# Altium footprint library Con 050 DSubminiature.PcbLib: 112 footprints (part 3 of 7)
Each footprint in its own frame and in the unit in brackets; x right, y up, seen from the top. Pads: shape width x height; smd on the part's side, far side on the other; paste and mask are expansions set on the pad; w line width, h text height; cw(c..) or ccw(c..) is an arc to the next point about the centre after c.
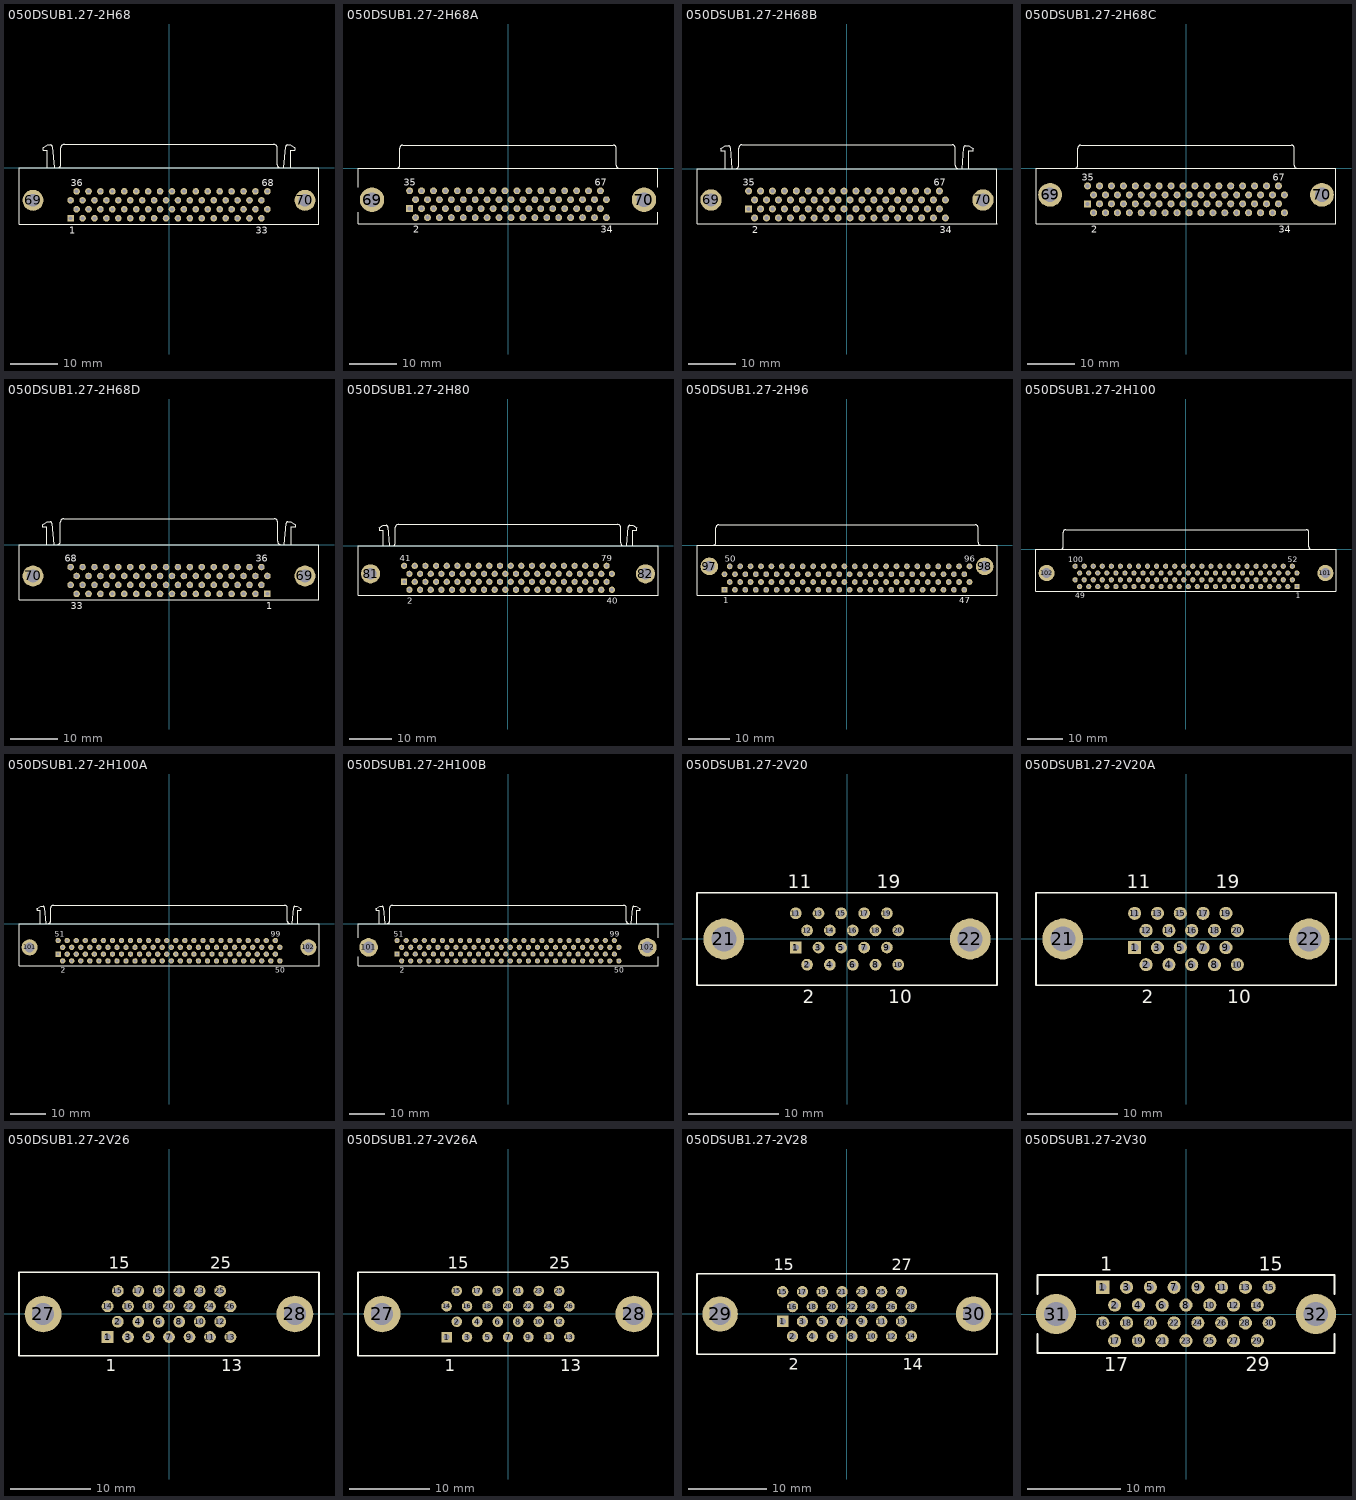
[diagram p2: the footprints below, top view; thin cyan lines are the x and y axes]

## 050DSUB1.27-2H68 [mm] "Connector; D Subminiature 050 Series; 68 Position; Right Angle"
height 10.55
pads (70):
  rect 1.4x1.4 hole 0.8: 1(-20.955,-10.715)
  round 1.4 hole 0.8: 2(-19.685,-8.81) 3(-18.415,-10.715) 4(-17.145,-8.81) 5(-15.875,-10.715) 6(-14.605,-8.81) 7(-13.335,-10.715) 8(-12.065,-8.81) 9(-10.795,-10.715) 10(-9.525,-8.81) 11(-8.255,-10.715) 12(-6.985,-8.81) 13(-5.715,-10.715) 14(-4.445,-8.81) 15(-3.175,-10.715) 16(-1.905,-8.81) 17(-0.635,-10.715) 18(0.635,-8.81) 19(1.905,-10.715) 20(3.175,-8.81) 21(4.445,-10.715) 22(5.715,-8.81) 23(6.985,-10.715) 24(8.255,-8.81) 25(9.525,-10.715) 26(10.795,-8.81) 27(12.065,-10.715) 28(13.335,-8.81) 29(14.605,-10.715) 30(15.875,-8.81) 31(17.145,-10.715) 32(18.415,-8.81) 33(19.685,-10.715) 34(20.955,-8.81) 35(-20.955,-6.905) 36(-19.685,-5) 37(-18.415,-6.905) 38(-17.145,-5) 39(-15.875,-6.905) 40(-14.605,-5) 41(-13.335,-6.905) 42(-12.065,-5) 43(-10.795,-6.905) 44(-9.525,-5) 45(-8.255,-6.905) 46(-6.985,-5) 47(-5.715,-6.905) 48(-4.445,-5) 49(-3.175,-6.905) 50(-1.905,-5) 51(-0.635,-6.905) 52(0.635,-5) 53(1.905,-6.905) 54(3.175,-5) 55(4.445,-6.905) 56(5.715,-5) 57(6.985,-6.905) 58(8.255,-5) 59(9.525,-6.905) 60(10.795,-5) 61(12.065,-6.905) 62(13.335,-5) 63(14.605,-6.905) 64(15.875,-5) 65(17.145,-6.905) 66(18.415,-5) 67(19.685,-6.905) 68(20.955,-5)
  round 4.45 hole 2.7: 69(-28.955,-6.905) 70(28.955,-6.905)
Top Overlay:
  lines w0.2: -26.815,4.27 -25.875,4.898 -25.153,4.898 cw(c-25.255,4.5) -24.845,4.5 ; -26.801,4.255 ccw(c-26.575,4.01) -26.825,3.79 -25.945,3.79 -25.945,0 ; -24.845,4.52 -24.475,0 ; -23.735,0.005 ccw(c-23.735,0.7) -23.04,0.7 -23.04,4.3 cw(c-22.345,4.3) -22.345,4.995 ; -22.345,5 22.345,5 ; 22.345,4.995 cw(c22.345,4.3) 23.04,4.3 23.04,0.7 ccw(c23.735,0.7) 23.735,0.005 ; 24.475,0 24.845,4.52 ; 24.845,4.5 cw(c25.255,4.5) 25.153,4.898 25.875,4.898 26.815,4.27 ; 25.945,0 25.945,3.79 26.825,3.79 ccw(c26.575,4.01) 26.801,4.255 ; -31.95,-12.015 31.95,-12.015 31.95,0 -31.95,0 -31.95,-12.015
  text "68" at 19.705,-3.925 h1.5
  text "36" at -20.935,-3.925 h1.5
  text "33" at 18.435,-13.99 h1.5
  text "1" at -21.205,-13.99 h1.5

## 050DSUB1.27-2H68A [mm] "Connector; D Subminiature 050 Series; 68 Position; Right Angle"
height 10.44
pads (70):
  rect 1.46x1.46 hole 0.86: 1(-20.955,-8.555)
  round 1.46 hole 0.86: 2(-19.685,-10.46) 3(-18.415,-8.555) 4(-17.145,-10.46) 5(-15.875,-8.555) 6(-14.605,-10.46) 7(-13.335,-8.555) 8(-12.065,-10.46) 9(-10.795,-8.555) 10(-9.525,-10.46) 11(-8.255,-8.555) 12(-6.985,-10.46) 13(-5.715,-8.555) 14(-4.445,-10.46) 15(-3.175,-8.555) 16(-1.905,-10.46) 17(-0.635,-8.555) 18(0.635,-10.46) 19(1.905,-8.555) 20(3.175,-10.46) 21(4.445,-8.555) 22(5.715,-10.46) 23(6.985,-8.555) 24(8.255,-10.46) 25(9.525,-8.555) 26(10.795,-10.46) 27(12.065,-8.555) 28(13.335,-10.46) 29(14.605,-8.555) 30(15.875,-10.46) 31(17.145,-8.555) 32(18.415,-10.46) 33(19.685,-8.555) 34(20.955,-10.46) 35(-20.955,-4.745) 36(-19.685,-6.65) 37(-18.415,-4.745) 38(-17.145,-6.65) 39(-15.875,-4.745) 40(-14.605,-6.65) 41(-13.335,-4.745) 42(-12.065,-6.65) 43(-10.795,-4.745) 44(-9.525,-6.65) 45(-8.255,-4.745) 46(-6.985,-6.65) 47(-5.715,-4.745) 48(-4.445,-6.65) 49(-3.175,-4.745) 50(-1.905,-6.65) 51(-0.635,-4.745) 52(0.635,-6.65) 53(1.905,-4.745) 54(3.175,-6.65) 55(4.445,-4.745) 56(5.715,-6.65) 57(6.985,-4.745) 58(8.255,-6.65) 59(9.525,-4.745) 60(10.795,-6.65) 61(12.065,-4.745) 62(13.335,-6.65) 63(14.605,-4.745) 64(15.875,-6.65) 65(17.145,-4.745) 66(18.415,-6.65) 67(19.685,-4.745) 68(20.955,-6.65)
  round 5.2 hole 3.18: 69(-28.955,-6.65) 70(28.955,-6.65)
Top Overlay:
  lines w0.2: -31.94,-9.298 -31.94,-11.76 31.94,-11.76 31.94,-9.298 ; -31.94,-4.002 -31.94,0 31.94,0 31.94,-4.002 ; -23.76,0.015 ccw(c-23.76,0.71) -23.065,0.71 -23.065,4.3 cw(c-22.37,4.3) -22.37,4.995 ; -22.37,5 22.37,5 ; 22.37,4.995 cw(c22.37,4.3) 23.065,4.3 23.065,0.71 ccw(c23.76,0.71) 23.76,0.015
  lines w0.254: -29.292,-6.65 -28.955,-6.65
  text "67" at 18.435,-3.64 h1.5
  text "35" at -22.205,-3.64 h1.5
  text "34" at 19.705,-13.735 h1.5
  text "2" at -20.185,-13.735 h1.5

## 050DSUB1.27-2H68B [mm] "Connector; D Subminiature 050 Series; 68 Position; Right Angle"
height 10.44
pads (70):
  rect 1.5x1.5 hole 0.86: 1(-20.955,-8.555)
  round 1.5 hole 0.86: 2(-19.685,-10.46) 3(-18.415,-8.555) 4(-17.145,-10.46) 5(-15.875,-8.555) 6(-14.605,-10.46) 7(-13.335,-8.555) 8(-12.065,-10.46) 9(-10.795,-8.555) 10(-9.525,-10.46) 11(-8.255,-8.555) 12(-6.985,-10.46) 13(-5.715,-8.555) 14(-4.445,-10.46) 15(-3.175,-8.555) 16(-1.905,-10.46) 17(-0.635,-8.555) 18(0.635,-10.46) 19(1.905,-8.555) 20(3.175,-10.46) 21(4.445,-8.555) 22(5.715,-10.46) 23(6.985,-8.555) 24(8.255,-10.46) 25(9.525,-8.555) 26(10.795,-10.46) 27(12.065,-8.555) 28(13.335,-10.46) 29(14.605,-8.555) 30(15.875,-10.46) 31(17.145,-8.555) 32(18.415,-10.46) 33(19.685,-8.555) 34(20.955,-10.46) 35(-20.955,-4.745) 36(-19.685,-6.65) 37(-18.415,-4.745) 38(-17.145,-6.65) 39(-15.875,-4.745) 40(-14.605,-6.65) 41(-13.335,-4.745) 42(-12.065,-6.65) 43(-10.795,-4.745) 44(-9.525,-6.65) 45(-8.255,-4.745) 46(-6.985,-6.65) 47(-5.715,-4.745) 48(-4.445,-6.65) 49(-3.175,-4.745) 50(-1.905,-6.65) 51(-0.635,-4.745) 52(0.635,-6.65) 53(1.905,-4.745) 54(3.175,-6.65) 55(4.445,-4.745) 56(5.715,-6.65) 57(6.985,-4.745) 58(8.255,-6.65) 59(9.525,-4.745) 60(10.795,-6.65) 61(12.065,-4.745) 62(13.335,-6.65) 63(14.605,-4.745) 64(15.875,-6.65) 65(17.145,-4.745) 66(18.415,-6.65) 67(19.685,-4.745) 68(20.955,-6.65)
  round 4.55 hole 2.77: 69(-28.955,-6.65) 70(28.955,-6.65)
Top Overlay:
  lines w0.2: -26.84,4.27 -25.9,4.898 -25.178,4.898 cw(c-25.28,4.5) -24.87,4.5 ; -26.826,4.255 ccw(c-26.6,4.01) -26.85,3.79 -25.97,3.79 -25.97,0 ; -24.87,4.52 -24.5,0 ; -23.76,0.005 ccw(c-23.76,0.7) -23.065,0.7 -23.065,4.4 cw(c-22.37,4.4) -22.37,5.095 ; -22.37,5.11 22.37,5.11 ; 22.37,5.095 cw(c22.37,4.4) 23.065,4.4 23.065,0.7 ccw(c23.76,0.7) 23.76,0.005 ; 24.5,0 24.87,4.52 ; 24.87,4.5 cw(c25.28,4.5) 25.178,4.898 25.9,4.898 26.84,4.27 ; 25.97,0 25.97,3.79 26.85,3.79 ccw(c26.6,4.01) 26.826,4.255 ; -31.95,-11.76 31.95,-11.76 31.95,0 -31.95,0 -31.95,-11.76
  text "2" at -20.185,-13.735 h1.5
  text "34" at 19.705,-13.735 h1.5
  text "67" at 18.435,-3.62 h1.5
  text "35" at -22.205,-3.62 h1.5

## 050DSUB1.27-2H68C [mm] "Connector; D Subminiature 050 Series; 68 Position; Right Angle"
height 10.44
pads (70):
  rect 1.5x1.5 hole 0.86: 1(-20.955,-7.52)
  round 1.5 hole 0.86: 2(-19.685,-9.425) 3(-18.415,-7.52) 4(-17.145,-9.425) 5(-15.875,-7.52) 6(-14.605,-9.425) 7(-13.335,-7.52) 8(-12.065,-9.425) 9(-10.795,-7.52) 10(-9.525,-9.425) 11(-8.255,-7.52) 12(-6.985,-9.425) 13(-5.715,-7.52) 14(-4.445,-9.425) 15(-3.175,-7.52) 16(-1.905,-9.425) 17(-0.635,-7.52) 18(0.635,-9.425) 19(1.905,-7.52) 20(3.175,-9.425) 21(4.445,-7.52) 22(5.715,-9.425) 23(6.985,-7.52) 24(8.255,-9.425) 25(9.525,-7.52) 26(10.795,-9.425) 27(12.065,-7.52) 28(13.335,-9.425) 29(14.605,-7.52) 30(15.875,-9.425) 31(17.145,-7.52) 32(18.415,-9.425) 33(19.685,-7.52) 34(20.955,-9.425) 35(-20.955,-3.71) 36(-19.685,-5.615) 37(-18.415,-3.71) 38(-17.145,-5.615) 39(-15.875,-3.71) 40(-14.605,-5.615) 41(-13.335,-3.71) 42(-12.065,-5.615) 43(-10.795,-3.71) 44(-9.525,-5.615) 45(-8.255,-3.71) 46(-6.985,-5.615) 47(-5.715,-3.71) 48(-4.445,-5.615) 49(-3.175,-3.71) 50(-1.905,-5.615) 51(-0.635,-3.71) 52(0.635,-5.615) 53(1.905,-3.71) 54(3.175,-5.615) 55(4.445,-3.71) 56(5.715,-5.615) 57(6.985,-3.71) 58(8.255,-5.615) 59(9.525,-3.71) 60(10.795,-5.615) 61(12.065,-3.71) 62(13.335,-5.615) 63(14.605,-3.71) 64(15.875,-5.615) 65(17.145,-3.71) 66(18.415,-5.615) 67(19.685,-3.71) 68(20.955,-5.615)
  round 5.05 hole 3.05: 69(-28.955,-5.615) 70(28.955,-5.615)
Top Overlay:
  lines w0.2: -23.76,0 ccw(c-23.76,0.695) -23.065,0.695 -23.065,4.295 cw(c-22.37,4.295) -22.37,4.99 ; -22.37,5 22.37,5 cw(c22.37,4.305) 23.065,4.305 ; 23.065,4.295 23.065,0.695 ccw(c23.76,0.695) 23.76,0 ; -31.94,-11.76 31.94,-11.76 31.94,0 -31.94,0 -31.94,-11.76
  text "34" at 19.705,-13.735 h1.5
  text "2" at -20.185,-13.735 h1.5
  text "35" at -22.205,-2.585 h1.5
  text "67" at 18.435,-2.585 h1.5

## 050DSUB1.27-2H68D [mm] "Connector; D Subminiature 050 Series; 68 Position; Right Angle"
height 10.55
pads (70):
  rect 1.4x1.4 hole 0.8: 1(20.955,-10.5)
  round 1.4 hole 0.8: 2(19.685,-8.595) 3(18.415,-10.5) 4(17.145,-8.595) 5(15.875,-10.5) 6(14.605,-8.595) 7(13.335,-10.5) 8(12.065,-8.595) 9(10.795,-10.5) 10(9.525,-8.595) 11(8.255,-10.5) 12(6.985,-8.595) 13(5.715,-10.5) 14(4.445,-8.595) 15(3.175,-10.5) 16(1.905,-8.595) 17(0.635,-10.5) 18(-0.635,-8.595) 19(-1.905,-10.5) 20(-3.175,-8.595) 21(-4.445,-10.5) 22(-5.715,-8.595) 23(-6.985,-10.5) 24(-8.255,-8.595) 25(-9.525,-10.5) 26(-10.795,-8.595) 27(-12.065,-10.5) 28(-13.335,-8.595) 29(-14.605,-10.5) 30(-15.875,-8.595) 31(-17.145,-10.5) 32(-18.415,-8.595) 33(-19.685,-10.5) 34(-20.955,-8.595) 35(20.955,-6.69) 36(19.685,-4.785) 37(18.415,-6.69) 38(17.145,-4.785) 39(15.875,-6.69) 40(14.605,-4.785) 41(13.335,-6.69) 42(12.065,-4.785) 43(10.795,-6.69) 44(9.525,-4.785) 45(8.255,-6.69) 46(6.985,-4.785) 47(5.715,-6.69) 48(4.445,-4.785) 49(3.175,-6.69) 50(1.905,-4.785) 51(0.635,-6.69) 52(-0.635,-4.785) 53(-1.905,-6.69) 54(-3.175,-4.785) 55(-4.445,-6.69) 56(-5.715,-4.785) 57(-6.985,-6.69) 58(-8.255,-4.785) 59(-9.525,-6.69) 60(-10.795,-4.785) 61(-12.065,-6.69) 62(-13.335,-4.785) 63(-14.605,-6.69) 64(-15.875,-4.785) 65(-17.145,-6.69) 66(-18.415,-4.785) 67(-19.685,-6.69) 68(-20.955,-4.785)
  round 4.45 hole 2.7: 69(28.955,-6.69) 70(-28.955,-6.69)
Top Overlay:
  lines w0.2: -26.915,4.27 -25.975,4.898 -25.253,4.898 cw(c-25.355,4.5) -24.945,4.5 ; -26.901,4.255 ccw(c-26.675,4.01) -26.925,3.79 -26.045,3.79 -26.045,0 ; -24.945,4.52 -24.575,0 ; -23.835,0.005 ccw(c-23.835,0.7) -23.14,0.7 -23.14,4.805 cw(c-22.445,4.805) -22.445,5.5 22.445,5.5 cw(c22.445,4.805) 23.14,4.805 23.14,0.7 ccw(c23.835,0.7) 23.835,0.005 ; 24.575,0 24.945,4.52 ; 24.945,4.5 cw(c25.355,4.5) 25.253,4.898 25.975,4.898 26.915,4.27 ; 26.045,0 26.045,3.79 26.925,3.79 ccw(c26.675,4.01) 26.901,4.255 ; -31.95,-11.8 31.95,-11.8 31.95,0 -31.95,0 -31.95,-11.8
  text "36" at 18.435,-3.71 h1.5
  text "68" at -22.205,-3.71 h1.5
  text "33" at -20.935,-13.775 h1.5
  text "1" at 20.705,-13.775 h1.5

## 050DSUB1.27-2H80 [mm] "Connector; D Subminiature 050 Series; 80 Position; Right Angle"
height 10.44
pads (82):
  rect 1.5x1.5 hole 0.86: 1(-24.765,-8.555)
  round 1.5 hole 0.86: 2(-23.495,-10.46) 3(-22.225,-8.555) 4(-20.955,-10.46) 5(-19.685,-8.555) 6(-18.415,-10.46) 7(-17.145,-8.555) 8(-15.875,-10.46) 9(-14.605,-8.555) 10(-13.335,-10.46) 11(-12.065,-8.555) 12(-10.795,-10.46) 13(-9.525,-8.555) 14(-8.255,-10.46) 15(-6.985,-8.555) 16(-5.715,-10.46) 17(-4.445,-8.555) 18(-3.175,-10.46) 19(-1.905,-8.555) 20(-0.635,-10.46) 21(0.635,-8.555) 22(1.905,-10.46) 23(3.175,-8.555) 24(4.445,-10.46) 25(5.715,-8.555) 26(6.985,-10.46) 27(8.255,-8.555) 28(9.525,-10.46) 29(10.795,-8.555) 30(12.065,-10.46) 31(13.335,-8.555) 32(14.605,-10.46) 33(15.875,-8.555) 34(17.145,-10.46) 35(18.415,-8.555) 36(19.685,-10.46) 37(20.955,-8.555) 38(22.225,-10.46) 39(23.495,-8.555) 40(24.765,-10.46) 41(-24.765,-4.745) 42(-23.495,-6.65) 43(-22.225,-4.745) 44(-20.955,-6.65) 45(-19.685,-4.745) 46(-18.415,-6.65) 47(-17.145,-4.745) 48(-15.875,-6.65) 49(-14.605,-4.745) 50(-13.335,-6.65) 51(-12.065,-4.745) 52(-10.795,-6.65) 53(-9.525,-4.745) 54(-8.255,-6.65) 55(-6.985,-4.745) 56(-5.715,-6.65) 57(-4.445,-4.745) 58(-3.175,-6.65) 59(-1.905,-4.745) 60(-0.635,-6.65) 61(0.635,-4.745) 62(1.905,-6.65) 63(3.175,-4.745) 64(4.445,-6.65) 65(5.715,-4.745) 66(6.985,-6.65) 67(8.255,-4.745) 68(9.525,-6.65) 69(10.795,-4.745) 70(12.065,-6.65) 71(13.335,-4.745) 72(14.605,-6.65) 73(15.875,-4.745) 74(17.145,-6.65) 75(18.415,-4.745) 76(19.685,-6.65) 77(20.955,-4.745) 78(22.225,-6.65) 79(23.495,-4.745) 80(24.765,-6.65)
  round 4.55 hole 2.77: 81(-32.765,-6.65) 82(32.765,-6.65)
Top Overlay:
  lines w0.2: -30.65,4.27 -29.71,4.898 -28.988,4.898 cw(c-29.09,4.5) -28.68,4.5 ; -30.636,4.255 ccw(c-30.41,4.01) -30.66,3.79 -29.78,3.79 -29.78,0 ; -28.68,4.52 -28.31,0 ; -27.57,0.005 ccw(c-27.57,0.7) -26.875,0.7 -26.875,4.41 cw(c-26.18,4.41) -26.18,5.105 ; -26.18,5.11 26.18,5.11 ; 26.18,5.105 cw(c26.18,4.41) 26.875,4.41 26.875,0.7 ccw(c27.57,0.7) 27.57,0.005 ; 28.31,0 28.68,4.52 ; 28.68,4.5 cw(c29.09,4.5) 28.988,4.898 29.71,4.898 30.65,4.27 ; 29.78,0 29.78,3.79 30.66,3.79 ccw(c30.41,4.01) 30.636,4.255 ; -35.75,-11.76 35.75,-11.76 35.75,0 -35.75,0 -35.75,-11.76
  text "2" at -23.995,-13.735 h1.5
  text "40" at 23.515,-13.735 h1.5
  text "79" at 22.245,-3.62 h1.5
  text "41" at -25.765,-3.62 h1.5

## 050DSUB1.27-2H96 [mm] "Connector; D Subminiature 050 Series; 96 Position; Right Angle"
height 8.1
pads (98):
  rect 1.4x1.4 hole 0.8: 1(-29.845,-10.87)
  round 1.4 hole 0.8: 2(-28.575,-8.965) 3(-27.305,-10.87) 4(-26.035,-8.965) 5(-24.765,-10.87) 6(-23.495,-8.965) 7(-22.225,-10.87) 8(-20.955,-8.965) 9(-19.685,-10.87) 10(-18.415,-8.965) 11(-17.145,-10.87) 12(-15.875,-8.965) 13(-14.605,-10.87) 14(-13.335,-8.965) 15(-12.065,-10.87) 16(-10.795,-8.965) 17(-9.525,-10.87) 18(-8.255,-8.965) 19(-6.985,-10.87) 20(-5.715,-8.965) 21(-4.445,-10.87) 22(-3.175,-8.965) 23(-1.905,-10.87) 24(-0.635,-8.965) 25(0.635,-10.87) 26(1.905,-8.965) 27(3.175,-10.87) 28(4.445,-8.965) 29(5.715,-10.87) 30(6.985,-8.965) 31(8.255,-10.87) 32(9.525,-8.965) 33(10.795,-10.87) 34(12.065,-8.965) 35(13.335,-10.87) 36(14.605,-8.965) 37(15.875,-10.87) 38(17.145,-8.965) 39(18.415,-10.87) 40(19.685,-8.965) 41(20.955,-10.87) 42(22.225,-8.965) 43(23.495,-10.87) 44(24.765,-8.965) 45(26.035,-10.87) 46(27.305,-8.965) 47(28.575,-10.87) 48(29.845,-8.965) 49(-29.845,-7.06) 50(-28.575,-5.155) 51(-27.305,-7.06) 52(-26.035,-5.155) 53(-24.765,-7.06) 54(-23.495,-5.155) 55(-22.225,-7.06) 56(-20.955,-5.155) 57(-19.685,-7.06) 58(-18.415,-5.155) 59(-17.145,-7.06) 60(-15.875,-5.155) 61(-14.605,-7.06) 62(-13.335,-5.155) 63(-12.065,-7.06) 64(-10.795,-5.155) 65(-9.525,-7.06) 66(-8.255,-5.155) 67(-6.985,-7.06) 68(-5.715,-5.155) 69(-4.445,-7.06) 70(-3.175,-5.155) 71(-1.905,-7.06) 72(-0.635,-5.155) 73(0.635,-7.06) 74(1.905,-5.155) 75(3.175,-7.06) 76(4.445,-5.155) 77(5.715,-7.06) 78(6.985,-5.155) 79(8.255,-7.06) 80(9.525,-5.155) 81(10.795,-7.06) 82(12.065,-5.155) 83(13.335,-7.06) 84(14.605,-5.155) 85(15.875,-7.06) 86(17.145,-5.155) 87(18.415,-7.06) 88(19.685,-5.155) 89(20.955,-7.06) 90(22.225,-5.155) 91(23.495,-7.06) 92(24.765,-5.155) 93(26.035,-7.06) 94(27.305,-5.155) 95(28.575,-7.06) 96(29.845,-5.155)
  round 4.3 hole 2.6: 97(-33.545,-5.155) 98(33.545,-5.155)
Top Overlay:
  lines w0.2: -32.625,0.002 ccw(c-32.625,0.697) -31.93,0.697 -31.93,4.305 cw(c-31.235,4.305) -31.235,5 31.3,5 ; 31.235,5 cw(c31.235,4.305) 31.93,4.305 31.93,0.7 ccw(c32.625,0.7) 32.625,0.005 ; -36.545,-12.17 -36.545,0 36.545,0 36.545,-12.17 -36.545,-12.17
  text "50" at -29.825,-4.08 h1.5
  text "96" at 28.595,-4.08 h1.5
  text "47" at 27.325,-14.145 h1.5
  text "1" at -30.095,-14.145 h1.5

## 050DSUB1.27-2H100 [mm] "Connector; D Subminiature 050 Series; 100 Position; Right Angle"
height 10.44
pads (102):
  rect 1.46x1.46 hole 0.86: 1(31.115,-10.46)
  round 1.46 hole 0.86: 2(29.845,-8.555) 3(28.575,-10.46) 4(27.305,-8.555) 5(26.035,-10.46) 6(24.765,-8.555) 7(23.495,-10.46) 8(22.225,-8.555) 9(20.955,-10.46) 10(19.685,-8.555) 11(18.415,-10.46) 12(17.145,-8.555) 13(15.875,-10.46) 14(14.605,-8.555) 15(13.335,-10.46) 16(12.065,-8.555) 17(10.795,-10.46) 18(9.525,-8.555) 19(8.255,-10.46) 20(6.985,-8.555) 21(5.715,-10.46) 22(4.445,-8.555) 23(3.175,-10.46) 24(1.905,-8.555) 25(0.635,-10.46) 26(-0.635,-8.555) 27(-1.905,-10.46) 28(-3.175,-8.555) 29(-4.445,-10.46) 30(-5.715,-8.555) 31(-6.985,-10.46) 32(-8.255,-8.555) 33(-9.525,-10.46) 34(-10.795,-8.555) 35(-12.065,-10.46) 36(-13.335,-8.555) 37(-14.605,-10.46) 38(-15.875,-8.555) 39(-17.145,-10.46) 40(-18.415,-8.555) 41(-19.685,-10.46) 42(-20.955,-8.555) 43(-22.225,-10.46) 44(-23.495,-8.555) 45(-24.765,-10.46) 46(-26.035,-8.555) 47(-27.305,-10.46) 48(-28.575,-8.555) 49(-29.845,-10.46) 50(-31.115,-8.555) 51(31.115,-6.65) 52(29.845,-4.745) 53(28.575,-6.65) 54(27.305,-4.745) 55(26.035,-6.65) 56(24.765,-4.745) 57(23.495,-6.65) 58(22.225,-4.745) 59(20.955,-6.65) 60(19.685,-4.745) 61(18.415,-6.65) 62(17.145,-4.745) 63(15.875,-6.65) 64(14.605,-4.745) 65(13.335,-6.65) 66(12.065,-4.745) 67(10.795,-6.65) 68(9.525,-4.745) 69(8.255,-6.65) 70(6.985,-4.745) 71(5.715,-6.65) 72(4.445,-4.745) 73(3.175,-6.65) 74(1.905,-4.745) 75(0.635,-6.65) 76(-0.635,-4.745) 77(-1.905,-6.65) 78(-3.175,-4.745) 79(-4.445,-6.65) 80(-5.715,-4.745) 81(-6.985,-6.65) 82(-8.255,-4.745) 83(-9.525,-6.65) 84(-10.795,-4.745) 85(-12.065,-6.65) 86(-13.335,-4.745) 87(-14.605,-6.65) 88(-15.875,-4.745) 89(-17.145,-6.65) 90(-18.415,-4.745) 91(-19.685,-6.65) 92(-20.955,-4.745) 93(-22.225,-6.65) 94(-23.495,-4.745) 95(-24.765,-6.65) 96(-26.035,-4.745) 97(-27.305,-6.65) 98(-28.575,-4.745) 99(-29.845,-6.65) 100(-31.115,-4.745)
  round 4.55 hole 2.77: 101(39.115,-6.65) 102(-39.115,-6.65)
Top Overlay:
  lines w0.2: -35.165,0.005 ccw(c-35.165,0.7) -34.47,0.7 -34.47,4.815 cw(c-33.775,4.815) -33.775,5.51 33.775,5.51 cw(c33.775,4.815) 34.47,4.815 34.47,0.7 ccw(c35.165,0.7) 35.165,0.005 ; -42.1,-11.76 -42.1,0 42.1,0 42.1,-11.76 -42.1,-11.76
  text "100" at -32.99,-3.64 h1.5
  text "49" at -31.095,-13.735 h1.5
  text "52" at 28.595,-3.64 h1.5
  text "1" at 30.865,-13.735 h1.5

## 050DSUB1.27-2H100A [mm] "Connector; D Subminiature 050 Series; 100 Position; Right Angle"
height 10.44
pads (102):
  rect 1.5x1.5 hole 0.86: 1(-31.115,-8.555)
  round 1.5 hole 0.86: 2(-29.845,-10.46) 3(-28.575,-8.555) 4(-27.305,-10.46) 5(-26.035,-8.555) 6(-24.765,-10.46) 7(-23.495,-8.555) 8(-22.225,-10.46) 9(-20.955,-8.555) 10(-19.685,-10.46) 11(-18.415,-8.555) 12(-17.145,-10.46) 13(-15.875,-8.555) 14(-14.605,-10.46) 15(-13.335,-8.555) 16(-12.065,-10.46) 17(-10.795,-8.555) 18(-9.525,-10.46) 19(-8.255,-8.555) 20(-6.985,-10.46) 21(-5.715,-8.555) 22(-4.445,-10.46) 23(-3.175,-8.555) 24(-1.905,-10.46) 25(-0.635,-8.555) 26(0.635,-10.46) 27(1.905,-8.555) 28(3.175,-10.46) 29(4.445,-8.555) 30(5.715,-10.46) 31(6.985,-8.555) 32(8.255,-10.46) 33(9.525,-8.555) 34(10.795,-10.46) 35(12.065,-8.555) 36(13.335,-10.46) 37(14.605,-8.555) 38(15.875,-10.46) 39(17.145,-8.555) 40(18.415,-10.46) 41(19.685,-8.555) 42(20.955,-10.46) 43(22.225,-8.555) 44(23.495,-10.46) 45(24.765,-8.555) 46(26.035,-10.46) 47(27.305,-8.555) 48(28.575,-10.46) 49(29.845,-8.555) 50(31.115,-10.46) 51(-31.115,-4.745) 52(-29.845,-6.65) 53(-28.575,-4.745) 54(-27.305,-6.65) 55(-26.035,-4.745) 56(-24.765,-6.65) 57(-23.495,-4.745) 58(-22.225,-6.65) 59(-20.955,-4.745) 60(-19.685,-6.65) 61(-18.415,-4.745) 62(-17.145,-6.65) 63(-15.875,-4.745) 64(-14.605,-6.65) 65(-13.335,-4.745) 66(-12.065,-6.65) 67(-10.795,-4.745) 68(-9.525,-6.65) 69(-8.255,-4.745) 70(-6.985,-6.65) 71(-5.715,-4.745) 72(-4.445,-6.65) 73(-3.175,-4.745) 74(-1.905,-6.65) 75(-0.635,-4.745) 76(0.635,-6.65) 77(1.905,-4.745) 78(3.175,-6.65) 79(4.445,-4.745) 80(5.715,-6.65) 81(6.985,-4.745) 82(8.255,-6.65) 83(9.525,-4.745) 84(10.795,-6.65) 85(12.065,-4.745) 86(13.335,-6.65) 87(14.605,-4.745) 88(15.875,-6.65) 89(17.145,-4.745) 90(18.415,-6.65) 91(19.685,-4.745) 92(20.955,-6.65) 93(22.225,-4.745) 94(23.495,-6.65) 95(24.765,-4.745) 96(26.035,-6.65) 97(27.305,-4.745) 98(28.575,-6.65) 99(29.845,-4.745) 100(31.115,-6.65)
  round 4.55 hole 2.77: 101(-39.115,-6.65) 102(39.115,-6.65)
Top Overlay:
  lines w0.2: -37,4.27 -36.06,4.898 -35.338,4.898 cw(c-35.44,4.5) -35.03,4.5 ; -36.986,4.255 ccw(c-36.76,4.01) -37.01,3.79 -36.13,3.79 -36.13,0 ; -35.03,4.52 -34.66,0 ; -33.92,0.005 ccw(c-33.92,0.7) -33.225,0.7 -33.225,4.415 cw(c-32.53,4.415) -32.53,5.11 32.53,5.11 cw(c32.53,4.415) 33.225,4.415 33.225,0.7 ccw(c33.92,0.7) 33.92,0.005 ; 34.66,0 35.03,4.52 ; 35.03,4.5 cw(c35.44,4.5) 35.338,4.898 36.06,4.898 37,4.27 ; 36.13,0 36.13,3.79 37.01,3.79 ccw(c36.76,4.01) 36.986,4.255 ; -42.1,-11.76 -42.1,0 42.1,0 42.1,-11.76 -42.1,-11.76
  text "2" at -30.345,-13.735 h1.5
  text "50" at 29.865,-13.735 h1.5
  text "51" at -32.115,-3.62 h1.5
  text "99" at 28.595,-3.62 h1.5

## 050DSUB1.27-2H100B [mm] "Connector; D Subminiature 050 Series; 100 Position; Right Angle"
height 10.44
pads (102):
  rect 1.46x1.46 hole 0.86: 1(-31.115,-8.555)
  round 1.46 hole 0.86: 2(-29.845,-10.46) 3(-28.575,-8.555) 4(-27.305,-10.46) 5(-26.035,-8.555) 6(-24.765,-10.46) 7(-23.495,-8.555) 8(-22.225,-10.46) 9(-20.955,-8.555) 10(-19.685,-10.46) 11(-18.415,-8.555) 12(-17.145,-10.46) 13(-15.875,-8.555) 14(-14.605,-10.46) 15(-13.335,-8.555) 16(-12.065,-10.46) 17(-10.795,-8.555) 18(-9.525,-10.46) 19(-8.255,-8.555) 20(-6.985,-10.46) 21(-5.715,-8.555) 22(-4.445,-10.46) 23(-3.175,-8.555) 24(-1.905,-10.46) 25(-0.635,-8.555) 26(0.635,-10.46) 27(1.905,-8.555) 28(3.175,-10.46) 29(4.445,-8.555) 30(5.715,-10.46) 31(6.985,-8.555) 32(8.255,-10.46) 33(9.525,-8.555) 34(10.795,-10.46) 35(12.065,-8.555) 36(13.335,-10.46) 37(14.605,-8.555) 38(15.875,-10.46) 39(17.145,-8.555) 40(18.415,-10.46) 41(19.685,-8.555) 42(20.955,-10.46) 43(22.225,-8.555) 44(23.495,-10.46) 45(24.765,-8.555) 46(26.035,-10.46) 47(27.305,-8.555) 48(28.575,-10.46) 49(29.845,-8.555) 50(31.115,-10.46) 51(-31.115,-4.745) 52(-29.845,-6.65) 53(-28.575,-4.745) 54(-27.305,-6.65) 55(-26.035,-4.745) 56(-24.765,-6.65) 57(-23.495,-4.745) 58(-22.225,-6.65) 59(-20.955,-4.745) 60(-19.685,-6.65) 61(-18.415,-4.745) 62(-17.145,-6.65) 63(-15.875,-4.745) 64(-14.605,-6.65) 65(-13.335,-4.745) 66(-12.065,-6.65) 67(-10.795,-4.745) 68(-9.525,-6.65) 69(-8.255,-4.745) 70(-6.985,-6.65) 71(-5.715,-4.745) 72(-4.445,-6.65) 73(-3.175,-4.745) 74(-1.905,-6.65) 75(-0.635,-4.745) 76(0.635,-6.65) 77(1.905,-4.745) 78(3.175,-6.65) 79(4.445,-4.745) 80(5.715,-6.65) 81(6.985,-4.745) 82(8.255,-6.65) 83(9.525,-4.745) 84(10.795,-6.65) 85(12.065,-4.745) 86(13.335,-6.65) 87(14.605,-4.745) 88(15.875,-6.65) 89(17.145,-4.745) 90(18.415,-6.65) 91(19.685,-4.745) 92(20.955,-6.65) 93(22.225,-4.745) 94(23.495,-6.65) 95(24.765,-4.745) 96(26.035,-6.65) 97(27.305,-4.745) 98(28.575,-6.65) 99(29.845,-4.745) 100(31.115,-6.65)
  round 5.2 hole 3.18: 101(-39.115,-6.65) 102(39.115,-6.65)
Top Overlay:
  lines w0.2: -42.1,-9.298 -42.1,-11.76 42.1,-11.76 42.1,-9.298 ; -42.1,-4.002 -42.1,0 42.1,0 42.1,-4.002 ; -37,4.27 -36.06,4.898 -35.338,4.898 cw(c-35.44,4.5) -35.03,4.5 ; -36.986,4.255 ccw(c-36.76,4.01) -37.01,3.79 -36.13,3.79 -36.13,0 ; -35.03,4.52 -34.66,0 ; -33.92,0.005 ccw(c-33.92,0.7) -33.225,0.7 -33.225,4.415 cw(c-32.53,4.415) -32.53,5.11 32.53,5.11 cw(c32.53,4.415) 33.225,4.415 33.225,0.7 ccw(c33.92,0.7) 33.92,0.005 ; 34.66,0 35.03,4.52 ; 35.03,4.5 cw(c35.44,4.5) 35.338,4.898 36.06,4.898 37,4.27 ; 36.13,0 36.13,3.79 37.01,3.79 ccw(c36.76,4.01) 36.986,4.255
  text "99" at 28.595,-3.64 h1.5
  text "51" at -32.115,-3.64 h1.5
  text "50" at 29.865,-13.735 h1.5
  text "2" at -30.345,-13.735 h1.5

## 050DSUB1.27-2V20 [mil] "Connector; D Subminiature 050 Series; 20 Position; Vertical"
height 356.3
pads (22):
  rect 51.22x51.22 hole 27.6: 1(-225,-37.5)
  round 51.22 hole 27.6: 2(-175,-112.5) 3(-125,-37.5) 4(-75,-112.5) 5(-25,-37.5) 6(25,-112.5) 7(75,-37.5) 8(125,-112.5) 9(175,-37.5) 10(225,-112.5) 11(-225,112.5) 12(-175,37.5) 13(-125,112.5) 14(-75,37.5) 15(-25,112.5) 16(25,37.5) 17(75,112.5) 18(125,37.5) 19(175,112.5) 20(225,37.5)
  round 179.13 hole 109.06: 21(-539.96,0) 22(539.96,0)
Top Overlay:
  lines w7.87: -657.48,-202.95 657.48,-202.95 657.48,202.95 -657.48,202.95 -657.48,-202.95
  text "2" at -194.69,-280.71 h59.06
  text "11" at -259.45,221.65 h59.06
  text "10" at 180.71,-280.71 h59.06
  text "19" at 130.71,221.65 h59.06

## 050DSUB1.27-2V20A [mm] "Connector; D Subminiature 050 Series; 20 Position; Vertical"
height 9.05
pads (22):
  rect 1.46x1.46 hole 0.86: 1(-5.715,-0.953)
  round 1.46 hole 0.86: 2(-4.445,-2.857) 3(-3.175,-0.953) 4(-1.905,-2.857) 5(-0.635,-0.953) 6(0.635,-2.857) 7(1.905,-0.953) 8(3.175,-2.857) 9(4.445,-0.953) 10(5.715,-2.857) 11(-5.715,2.857) 12(-4.445,0.953) 13(-3.175,2.857) 14(-1.905,0.953) 15(-0.635,2.857) 16(0.635,0.953) 17(1.905,2.857) 18(3.175,0.953) 19(4.445,2.857) 20(5.715,0.953)
  round 4.55 hole 2.77: 21(-13.715,0) 22(13.715,0)
Top Overlay:
  lines w0.2: -16.7,-5.155 16.7,-5.155 16.7,5.155 -16.7,5.155 -16.7,-5.155
  text "2" at -4.945,-7.13 h1.5
  text "11" at -6.59,5.63 h1.5
  text "10" at 4.59,-7.13 h1.5
  text "19" at 3.32,5.63 h1.5

## 050DSUB1.27-2V26 [mm] "Connector; D Subminiature 050 Series; 26 Position; Vertical"
height 9.04
pads (28):
  rect 1.46x1.46 hole 0.86: 1(-7.62,-2.857)
  round 1.46 hole 0.86: 2(-6.35,-0.953) 3(-5.08,-2.857) 4(-3.81,-0.953) 5(-2.54,-2.857) 6(-1.27,-0.953) 7(0,-2.857) 8(1.27,-0.953) 9(2.54,-2.857) 10(3.81,-0.953) 11(5.08,-2.857) 12(6.35,-0.953) 13(7.62,-2.857) 14(-7.62,0.953) 15(-6.35,2.857) 16(-5.08,0.953) 17(-3.81,2.857) 18(-2.54,0.953) 19(-1.27,2.857) 20(0,0.953) 21(1.27,2.857) 22(2.54,0.953) 23(3.81,2.857) 24(5.08,0.953) 25(6.35,2.857) 26(7.62,0.953)
  round 4.55 hole 2.77: 27(-15.62,0) 28(15.62,0)
Top Overlay:
  lines w0.2: -18.605,-5.155 -18.605,5.155 18.605,5.155 18.605,-5.155 -18.605,-5.155
  text "25" at 5.1,5.63 h1.5
  text "15" at -7.475,5.63 h1.5
  text "13" at 6.495,-7.13 h1.5
  text "1" at -7.87,-7.13 h1.5

## 050DSUB1.27-2V26A [mil] "Connector; D Subminiature 050 Series; 26 Position; Vertical"
height 356.3
pads (28):
  rect 51.22x51.22 hole 27.6: 1(-300,-112.5)
  round 51.22 hole 27.6: 2(-250,-37.5) 3(-200,-112.5) 4(-150,-37.5) 5(-100,-112.5) 6(-50,-37.5) 7(0,-112.5) 8(50,-37.5) 9(100,-112.5) 10(150,-37.5) 11(200,-112.5) 12(250,-37.5) 13(300,-112.5) 14(-300,37.5) 15(-250,112.5) 16(-200,37.5) 17(-150,112.5) 18(-100,37.5) 19(-50,112.5) 20(0,37.5) 21(50,112.5) 22(100,37.5) 23(150,112.5) 24(200,37.5) 25(250,112.5) 26(300,37.5)
  round 179.13 hole 109.06: 27(-614.96,0) 28(614.96,0)
Top Overlay:
  lines w7.87: -732.48,-202.95 -732.48,202.95 732.48,202.95 732.48,-202.95 -732.48,-202.95
  text "25" at 200.79,221.65 h59.06
  text "15" at -294.29,221.65 h59.06
  text "13" at 255.71,-280.71 h59.06
  text "1" at -309.84,-280.71 h59.06

## 050DSUB1.27-2V28 [mm] "Connector; D Subminiature 050 Series; 28 Position; Vertical"
height 9.05
pads (30):
  rect 1.46x1.46 hole 0.86: 1(-8.24,-0.953)
  round 1.46 hole 0.86: 2(-6.97,-2.857) 3(-5.7,-0.953) 4(-4.43,-2.857) 5(-3.16,-0.953) 6(-1.89,-2.857) 7(-0.62,-0.953) 8(0.65,-2.857) 9(1.92,-0.953) 10(3.19,-2.857) 11(4.46,-0.953) 12(5.73,-2.857) 13(7,-0.953) 14(8.27,-2.857) 15(-8.24,2.857) 16(-6.97,0.953) 17(-5.7,2.857) 18(-4.43,0.953) 19(-3.16,2.857) 20(-1.89,0.953) 21(-0.62,2.857) 22(0.65,0.953) 23(1.92,2.857) 24(3.19,0.953) 25(4.46,2.857) 26(5.73,0.953) 27(7,2.857) 28(8.27,0.953)
  round 4.55 hole 2.77: 29(-16.255,0) 30(16.255,0)
Top Overlay:
  lines w0.2: -19.225,-5.155 -19.225,5.155 19.255,5.155 19.255,-5.155 -19.225,-5.155
  text "27" at 5.75,5.63 h1.5
  text "15" at -9.365,5.63 h1.5
  text "14" at 7.145,-7.13 h1.5
  text "2" at -7.47,-7.13 h1.5

## 050DSUB1.27-2V30 [mm] "Connector; D Subminiature 050 Series; 30 Position; Vertical"
height 9.3
pads (32):
  rect 1.4x1.4 hole 0.8: 1(-8.89,2.857)
  round 1.4 hole 0.8: 2(-7.62,0.953) 3(-6.35,2.857) 4(-5.08,0.953) 5(-3.81,2.857) 6(-2.54,0.953) 7(-1.27,2.857) 8(0,0.953) 9(1.27,2.857) 10(2.54,0.953) 11(3.81,2.857) 12(5.08,0.953) 13(6.35,2.857) 14(7.62,0.953) 15(8.89,2.857) 16(-8.89,-0.953) 17(-7.62,-2.857) 18(-6.35,-0.953) 19(-5.08,-2.857) 20(-3.81,-0.953) 21(-2.54,-2.857) 22(-1.27,-0.953) 23(0,-2.857) 24(1.27,-0.953) 25(2.54,-2.857) 26(3.81,-0.953) 27(5.08,-2.857) 28(6.35,-0.953) 29(7.62,-2.857) 30(8.89,-0.953)
  round 4.3 hole 2.6: 31(-13.875,0) 32(13.875,0)
Top Overlay:
  lines w0.2: -15.875,-2.146 -15.875,-4.157 15.875,-4.157 15.875,-2.146 ; -15.875,2.146 -15.875,4.157 15.875,4.157 15.875,2.146
  text "17" at -8.745,-6.132 h1.5
  text "29" at 6.37,-6.132 h1.5
  text "15" at 7.765,4.633 h1.5
  text "1" at -9.14,4.633 h1.5